# Altium footprint library 电阻 - 副本.PcbLib: 12 footprints
Each footprint in its own frame and in the unit in brackets; x right, y up, seen from the top. Pads: shape width x height; smd on the part's side, far side on the other; paste and mask are expansions set on the pad; w line width, h text height; cw(c..) or ccw(c..) is an arc to the next point about the centre after c.
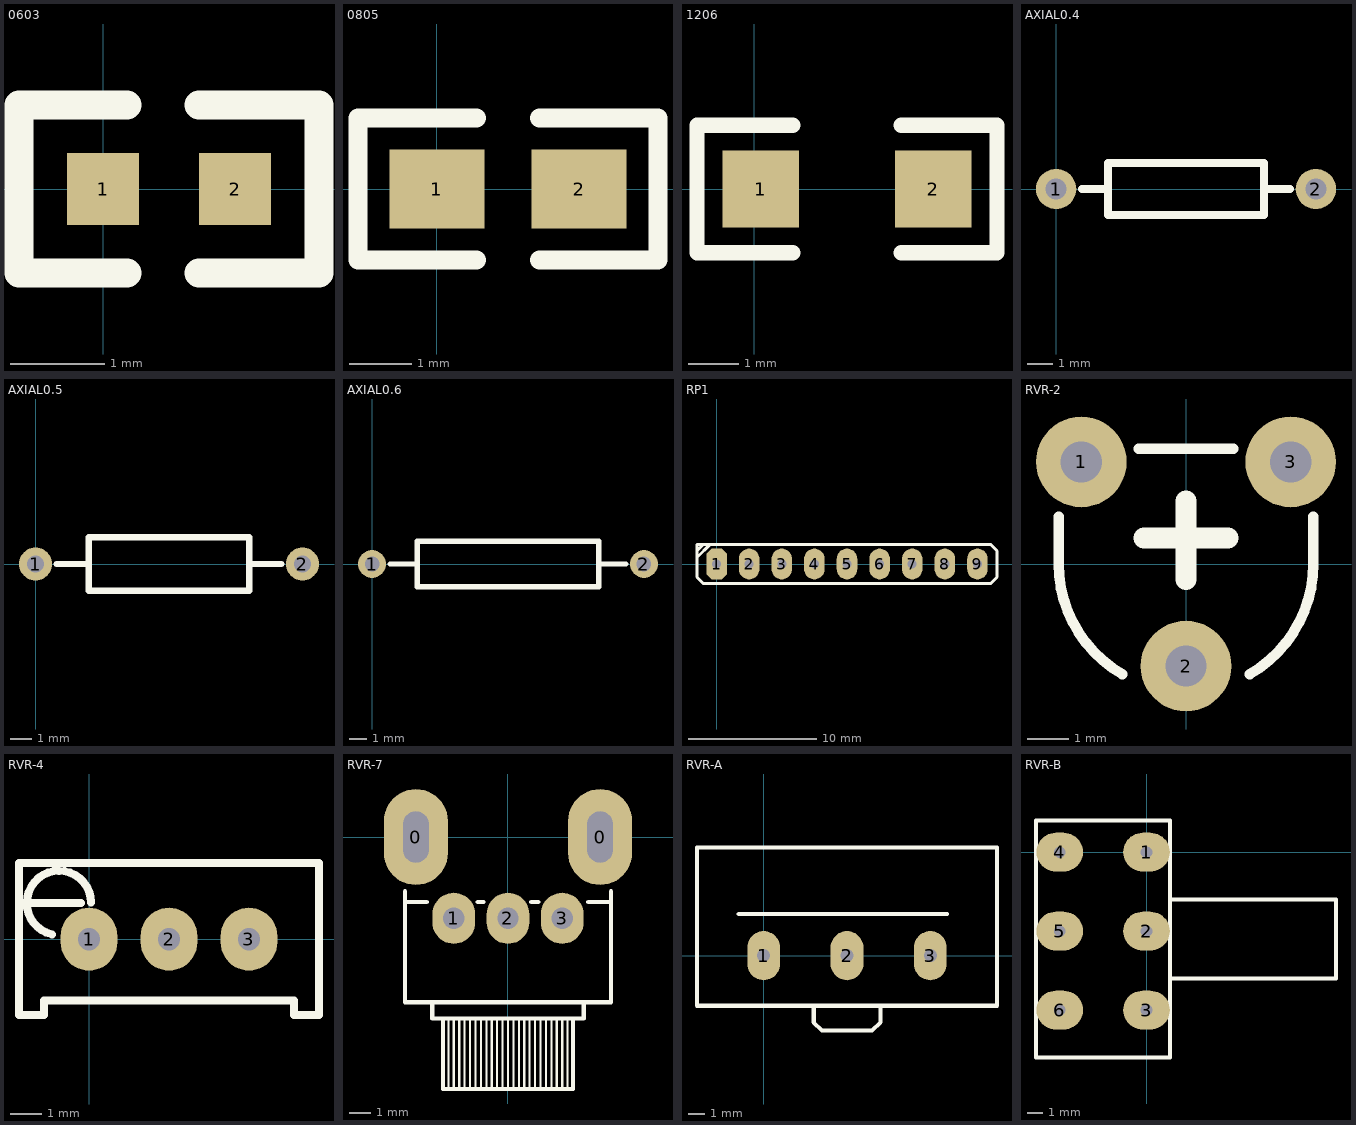
[diagram p0: the footprints below, top view; thin cyan lines are the x and y axes]

## 0603 [mil]
pads (2):
  rect 30x30 smd: 1(0,0) 2(55,0)
Top Overlay:
  lines w12: 10,-35 -35,-35 -35,35 10,35 ; 40,-35 90,-35 90,35 40,35

## 0805 [mil]
pads (2):
  rect 60x50 smd: 1(0,0) 2(90,0)
Top Overlay:
  lines w12: 25,-45 -50,-45 -50,45 25,45 ; 65,-45 140,-45 140,45 65,45

## 1206 [mil]
pads (2):
  rect 60x60 smd: 1(5,0) 2(140,0)
Top Overlay:
  lines w12: 30,-50 -45,-50 -45,50 30,50 ; 115,-50 190,-50 190,50 115,50

## AXIAL0.4 [mil]
pads (2):
  round 62 hole 32: 1(0,0) 2(400,0)
Top Overlay:
  lines w12: 40,0 80,0 ; 320,0 360,0 ; 80,-40 320,-40 320,40 80,40 80,-40

## AXIAL0.5 [mil]
pads (2):
  round 62 hole 32: 1(0,0) 2(500,0)
Top Overlay:
  lines w12: 40,0 100,0 ; 400,0 460,0 ; 100,-50 400,-50 400,50 100,50 100,-50

## AXIAL0.6 [mil]
pads (2):
  round 62 hole 32: 1(0,0) 2(600,0)
Top Overlay:
  lines w12: 40,0 100,0 ; 500,0 560,0 ; 100,-50 100,50 500,50 500,-50 100,-50

## RP1 [mm]
pads (9):
  oct 1.6x2.4 hole 0.7: 1(0,0)
  oval 1.6x2.4 hole 0.7: 2(2.54,0) 3(5.08,0) 4(7.62,0) 5(10.16,0) 6(12.7,0) 7(15.24,0) 8(17.78,0) 9(20.32,0)
Top Overlay:
  lines w0.254: -1.524,0.508 -0.508,1.524 ; -1.524,1.016 -1.524,1.524 -1.016,1.524 ; -1.524,1.016 -1.016,1.524 ; -1.524,1.016 -1.524,-1.016 -1.016,-1.524 21.336,-1.524 21.844,-1.016 21.844,1.016 21.336,1.524 -1.016,1.524

## RVR-2 [mm]
pads (3):
  round 2.2 hole 1: 1(-2.54,2.476) 2(0,-2.476) 3(2.54,2.476)
Top Overlay:
  lines w0.254: -3.09,1.143 -3.09,0 ccw(c0,0) -1.545,-2.676 ; -1.143,2.794 1.143,2.794 ; 1.545,-2.676 ccw(c0,0) 3.09,0 3.09,1.143
  lines w0.508: -1.016,0.635 1.016,0.635 ; 0,-0.381 0,1.524
3D body: height 7.5, standoff -2, extent -3.2,-3.215 3.2,3.785

## RVR-4 [mm] "Top Preset Potentiometer,3296W"
height 11.55
pads (3):
  oval 1.8x2 hole 0.711: 1(0,0) 2(2.54,0) 3(5.08,0)
Top Overlay:
  lines w0.254: -1.978,1.15 -0.955,1.15 -0.252,1.15 ; -1.179,0.152 cw(c-0.955,1.15) 0.068,1.171 ; 6.505,-2.01 6.505,-2.41 7.305,-2.41 7.305,2.42 -2.225,2.42 -2.225,-2.41 -1.425,-2.41 -1.425,-1.95 6.505,-1.95
3D body: height 11.55, standoff -6.4, extent -2.225,-2.41 7.305,2.421

## RVR-7 [mm]
height 12
pads (5):
  oval 3x4.5 hole 1.2 slot 2.4 at 90 deg: 0(-4.318,0) 0(4.318,0)
  oval 2x2.4 hole 1: 1(-2.54,-3.81) 2(0,-3.81) 3(2.54,-3.81)
Top Overlay:
  lines w0.1: -2.794,-11.811 -2.794,-8.509 ; -2.54,-11.811 -2.54,-8.509 ; -2.286,-11.811 -2.286,-8.509 ; -2.032,-11.811 -2.032,-8.509 ; -1.778,-11.811 -1.778,-8.509 ; -1.524,-11.811 -1.524,-8.509 ; -1.27,-11.811 -1.27,-8.509 ; -1.016,-11.811 -1.016,-8.509 ; -0.762,-11.811 -0.762,-8.509 ; -0.508,-11.811 -0.508,-8.509 ; -0.254,-11.811 -0.254,-8.509 ; 0,-11.811 0,-8.509 ; 0.254,-11.811 0.254,-8.509 ; 0.508,-11.811 0.508,-8.509 ; 0.762,-11.811 0.762,-8.509 ; 1.016,-11.811 1.016,-8.509 ; 1.27,-11.811 1.27,-8.509 ; 1.524,-11.811 1.524,-8.509 ; 1.778,-11.811 1.778,-8.509 ; 2.032,-11.811 2.032,-8.509 ; 2.286,-11.811 2.286,-8.509 ; 2.54,-11.811 2.54,-8.509 ; 2.794,-11.811 2.794,-8.509
  lines w0.2: -4.826,-3.048 -3.81,-3.048 ; -4.826,-2.54 -4.826,-2.794 -4.826,-7.747 4.826,-7.747 4.826,-2.794 4.826,-2.54 ; -3.556,-7.747 -3.556,-8.509 3.556,-8.509 3.556,-7.747 ; -3.048,-8.509 -3.048,-11.811 3.048,-11.811 3.048,-8.509 ; -1.422,-3.048 -1.143,-3.048 ; 1.092,-3.048 1.422,-3.048 ; 3.759,-3.048 4.826,-3.048

## RVR-A [mm]
pads (3):
  oval 2x3 hole 0.8: 1(0,0) 2(5.08,0) 3(10.16,0)
Top Overlay:
  lines w0.254: -1.524,2.54 11.176,2.54 ; 3.048,-3.048 3.048,-4.064 3.556,-4.572 6.604,-4.572 7.112,-4.064 7.112,-3.048 ; -4.064,-3.048 -4.064,6.604 14.224,6.604 14.224,0 14.224,-3.048 -4.064,-3.048

## RVR-B [mm]
pads (6):
  oval 3x2.5 hole 0.75: 1(0,0) 2(0,-5.08) 3(0,-10.16) 4(-5.588,0) 5(-5.588,-5.08) 6(-5.588,-10.16)
Top Overlay:
  lines w0.254: 1.524,-8.128 12.192,-8.128 12.192,-3.048 1.524,-3.048 ; -7.112,-13.208 -7.112,2.032 1.524,2.032 1.524,-13.208 -7.112,-13.208